# EAGLE library part LTC-4624JR (library ABI)
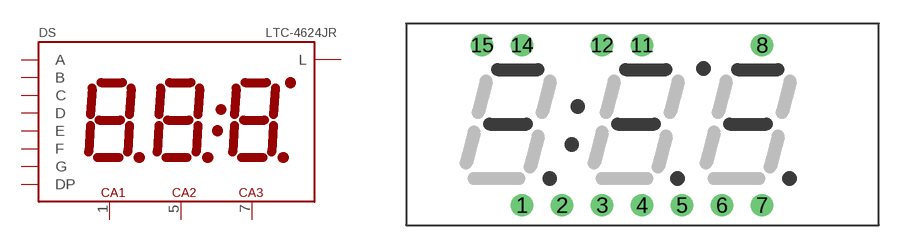
[diagram p10: symbol with the pads of LTC-4624JR; footprint LTC-4624JR]

Designator prefix DS

## LTC-4624JR  [LTC-4624JR]
1  A1
2  E
3  C
4  D
5  A2
6  DP
7  A3
8  G
11  B
12  A
14  L
15  F

## Footprint LTC-4624JR (pad centres in mm)
drill 0.813 pad 1.422 round: 1 -7.62,-5.08; 2 -5.08,-5.08; 3 -2.54,-5.08; 4 0,-5.08; 5 2.54,-5.08; 6 5.08,-5.08; 7 7.62,-5.08; 8 7.62,5.08; 11 0,5.08; 12 -2.54,5.08; 14 -7.62,5.08; 15 -10.16,5.08